# EAGLE library part A31301EEJASR-XYZ-IC-06 (library A31301EEJASR-XYZ-IC-06)
3D Linear Hall-Effect Sensor with SPI, I2C Interfaces, and Advanced Low-Power Management Source: Datasheet <https://www.allegromicro.com/en/>
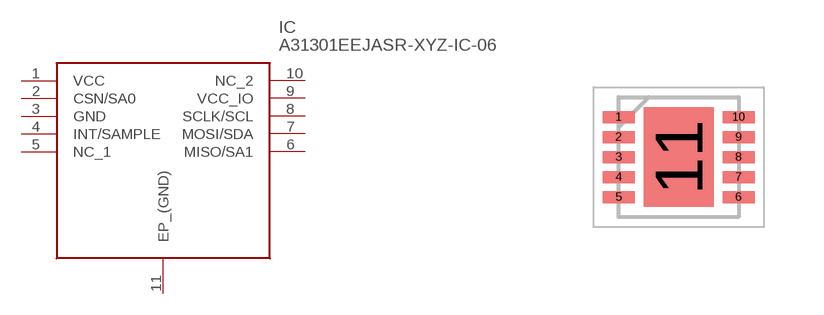
[diagram p0: symbol with the pads of SON50P300X300X80-11N; footprint SON50P300X300X80-11N]

Designator prefix IC

## A31301EEJASR-XYZ-IC-06 (Arrow_Part_Number: A31301EEJASR-XYZ-IC-06; Arrow_Price-Stock: https://www.arrow.com/en/products/a31301eejasr-xyz-ic-06/allegro-microsystems?utm_currency=USD&region=nac; Description: 3D Linear Hall-Effect Sensor with SPI, I2C Interfaces, and Advanced Low-Power Management; Height: 0.8mm; Manufacturer_Name: Allegro Microsystems; Manufacturer_Part_Number: A31301EEJASR-XYZ-IC-06; Mouser_Part_Number: 250-A31301EEJASRIC06; Mouser_Price-Stock: https://www.mouser.co.uk/ProductDetail/Allegro-MicroSystems/A31301EEJASR-XYZ-IC-06?qs=ST9lo4GX8V09bDUIBZAaKw%3D%3D)  [SON50P300X300X80-11N]
1  VCC
2  CSN/SA0
3  GND
4  INT/SAMPLE
5  NC_1
6  MISO/SA1
7  MOSI/SDA
8  SCLK/SCL
9  VCC_IO
10  NC_2
11  EP_(GND)

## Footprint SON50P300X300X80-11N (pad centres in mm)
DFN10 (EJ)
smd 0.8 x 0.3: 1 -1.5,1; 2 -1.5,0.5; 3 -1.5,0; 4 -1.5,-0.5; 5 -1.5,-1; 6 1.5,-1; 7 1.5,-0.5; 8 1.5,0; 9 1.5,0.5; 10 1.5,1
smd 1.75 x 2.48: 11 0,0